# Altium integrated library MLF1005VR47JT000.IntLib: 1 symbol
Pins are listed as number, name and electrical type; pins without a type are passive.

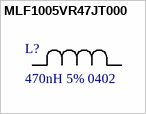
[diagram p0: symbol MLF1005VR47JT000]

## MLF1005VR47JT000
designator L?, comment 470nH 5% 0402
Fixed Inductors 470nH 5% 0.12 A 1.5 Ohms; Manufacturer_Part_Number: MLF1005VR47JT000; Vendor: TDK; Built_By: EMA_UL_Team; Type: DEV; C: Copyright (C) 2015 Accelerated Designs. All rights reserved; RefDes: RefDes; Value: Value
footprint IND_1005
pins: 1, 2